# EAGLE library part 691314520111 (library Wurth_Elektronik_Electromechanic_Terminal_Blocks_Connectors_rev16b)
WR-TBL Serie 314 - 5.08mm Close 45° PCB Header with Flanges , 11 pins=>Code : WR-TBL_314_691314520111 <http://katalog.we-online.de/media/images/eican/WR-TBL_314_691314520103_pf2.jpg> Details see: http://katalog.we-online.de/en/em/691_314_520_1xx Created 2014-06-25, Karrer Zheng 2014 (C) Würth Elektronik
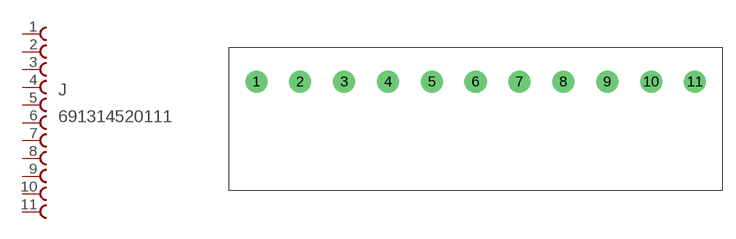
[diagram p156: symbol with the pads of 691314520111; footprint 691314520111]

Designator prefix J

## 691314520111  [691314520111]
1  1  pas
2  2  pas
3  3  pas
4  4  pas
5  5  pas
6  6  pas
7  7  pas
8  8  pas
9  9  pas
10  10  pas
11  11  pas

## Footprint 691314520111 (pad centres in mm)
WR-TBL Serie 314 - 5.08mm Close 45° PCB Header with Flanges , 11 pins
drill 1.7: 1 -25.4,0; 2 -20.32,0; 3 -15.24,0; 4 -10.16,0; 5 -5.08,0; 6 0,0; 7 5.08,0; 8 10.16,0; 9 15.24,0; 10 20.32,0; 11 25.4,0